# Altium schematic symbol library WCAP-PHLE.SchLib: 11 symbols
Pins are listed as number, name and electrical type; pins without a type are passive.

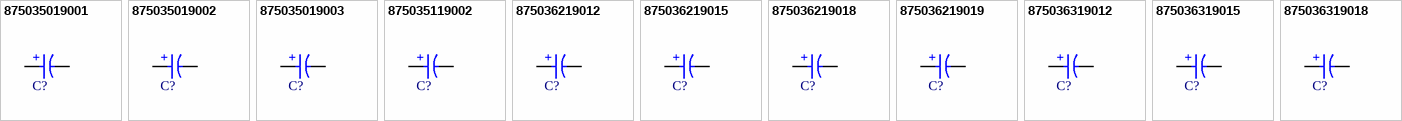
[diagram p0: symbols 875035019001 to 875036319018]

## 875035019001
designator C?, comment 100µF  (value not drawn)
WCAP-PHLE Aluminum Polymer Capacitor, H-Chip, SMT, L7.3 x W4.3 x H1.9mm, 100µF, 4V; Manufacturer Part Number: 875035019001; Manufacturer: Wurth Elektronik; Capacitance Tolerance: +/-20%; Dissipation Factor: 6%; Endurance: 2000h; ESR: 9mΩ; Leakage Current: 40µA; Ripple Current: 6300mA; Technical Reference: PSE2917101M004DH1T2HT19; Category: Aluminum Polymer Capacitors; Match Code: WCAP-PHLE; ComponentLink1Description: Website Link; ComponentLink1URL: https://www.we-online.com/redexpert/article/875035019001?ad; ComponentLink2Description: Datasheet Link; ComponentLink2URL: https://www.we-online.com/redexpert/spec/875035019001?ad; Mount: Surface Mount; Operating Temperature Max: 105°C; Operating Temperature Min: -55°C; Packaging: Tape and Reel; Length: 7.3mm; Width: 4.3mm; Height: 1.9mm; Capacitance: 100µF; Rated Voltage (DC): 4V
footprint WCAP-PHLE_L7.3W4.3H1.9
simulation model 875035019001_100uF
pins: 1 P, 2 N
text: +

## 875035019002
designator C?, comment 180µF  (value not drawn)
WCAP-PHLE Aluminum Polymer Capacitor, H-Chip, SMT, L7.3 x W4.3 x H1.9mm, 180µF, 4V; Manufacturer Part Number: 875035019002; Manufacturer: Wurth Elektronik; Capacitance Tolerance: +/-20%; Dissipation Factor: 6%; Endurance: 2000h; ESR: 9mΩ; Leakage Current: 72µA; Ripple Current: 6300mA; Technical Reference: PSE2917181M004DH1T2HT19; Category: Aluminum Polymer Capacitors; Match Code: WCAP-PHLE; ComponentLink1Description: Website Link; ComponentLink1URL: https://www.we-online.com/redexpert/article/875035019002?ad; ComponentLink2Description: Datasheet Link; ComponentLink2URL: https://www.we-online.com/redexpert/spec/875035019002?ad; Mount: Surface Mount; Operating Temperature Max: 105°C; Operating Temperature Min: -55°C; Packaging: Tape and Reel; Length: 7.3mm; Width: 4.3mm; Height: 1.9mm; Capacitance: 180µF; Rated Voltage (DC): 4V
footprint WCAP-PHLE_L7.3W4.3H1.9
simulation model 875035019002_180uF
pins: 1 P, 2 N
text: +

## 875035019003
designator C?, comment 220µF  (value not drawn)
WCAP-PHLE Aluminum Polymer Capacitor, H-Chip, SMT, L7.3 x W4.3 x H1.9mm, 220µF, 4V; Manufacturer Part Number: 875035019003; Manufacturer: Wurth Elektronik; Capacitance Tolerance: +/-20%; Dissipation Factor: 6%; Endurance: 2000h; ESR: 9mΩ; Leakage Current: 88µA; Ripple Current: 6300mA; Technical Reference: PSE2917221M004DH1T2HT19; Category: Aluminum Polymer Capacitors; Match Code: WCAP-PHLE; ComponentLink1Description: Website Link; ComponentLink1URL: https://www.we-online.com/redexpert/article/875035019003?ad; ComponentLink2Description: Datasheet Link; ComponentLink2URL: https://www.we-online.com/redexpert/spec/875035019003?ad; Mount: Surface Mount; Operating Temperature Max: 105°C; Operating Temperature Min: -55°C; Packaging: Tape and Reel; Length: 7.3mm; Width: 4.3mm; Height: 1.9mm; Capacitance: 220µF; Rated Voltage (DC): 4V
footprint WCAP-PHLE_L7.3W4.3H1.9
simulation model 875035019003_220uF
pins: 1 P, 2 N
text: +

## 875035119002
designator C?, comment 180µF  (value not drawn)
WCAP-PHLE Aluminum Polymer Capacitor, H-Chip, SMT, L7.3 x W4.3 x H1.9mm, 180µF, 6.3V; Manufacturer Part Number: 875035119002; Manufacturer: Wurth Elektronik; Capacitance Tolerance: +/-20%; Dissipation Factor: 6%; Endurance: 2000h; ESR: 9mΩ; Leakage Current: 113.4µA; Ripple Current: 6300mA; Technical Reference: PSE2917181M6R3DH1T2HT19; Category: Aluminum Polymer Capacitors; Match Code: WCAP-PHLE; ComponentLink1Description: Website Link; ComponentLink1URL: https://www.we-online.com/redexpert/article/875035119002?ad; ComponentLink2Description: Datasheet Link; ComponentLink2URL: https://www.we-online.com/redexpert/spec/875035119002?ad; Mount: Surface Mount; Operating Temperature Max: 105°C; Operating Temperature Min: -55°C; Packaging: Tape and Reel; Length: 7.3mm; Width: 4.3mm; Height: 1.9mm; Capacitance: 180µF; Rated Voltage (DC): 6.3V
footprint WCAP-PHLE_L7.3W4.3H1.9
simulation model 875035119002_180uF
pins: 1 P, 2 N
text: +

## 875036219012
designator C?, comment 330µF  (value not drawn)
WCAP-PHLE Aluminum Polymer Capacitor, H-Chip, SMT, L7.3 x W4.3 x H1.9mm, 330µF, 2V; Manufacturer Part Number: 875036219012; Manufacturer: Wurth Elektronik; Capacitance Tolerance: +/-20%; Dissipation Factor: 6%; Endurance: 2000h; ESR: 4.5mΩ; Leakage Current: 66µA; Ripple Current: 8500mA; Technical Reference: PSE2917331M002DH1T2HT19; Category: Aluminum Polymer Capacitors; Match Code: WCAP-PHLE; ComponentLink1Description: Website Link; ComponentLink1URL: https://www.we-online.com/redexpert/article/875036219012?ad; ComponentLink2Description: Datasheet Link; ComponentLink2URL: https://www.we-online.com/redexpert/spec/875036219012?ad; Mount: Surface Mount; Operating Temperature Max: 105°C; Operating Temperature Min: -55°C; Packaging: Tape and Reel; Length: 7.3mm; Width: 4.3mm; Height: 1.9mm; Capacitance: 330µF; Rated Voltage (DC): 2V
footprint WCAP-PHLE_L7.3W4.3H1.9
simulation model 875036219012_330uF
pins: 1 P, 2 N
text: +

## 875036219015
designator C?, comment 390µF  (value not drawn)
WCAP-PHLE Aluminum Polymer Capacitor, H-Chip, SMT, L7.3 x W4.3 x H1.9mm, 390µF, 2V; Manufacturer Part Number: 875036219015; Manufacturer: Wurth Elektronik; Capacitance Tolerance: +/-20%; Dissipation Factor: 6%; Endurance: 2000h; ESR: 4.5mΩ; Leakage Current: 78µA; Ripple Current: 8500mA; Technical Reference: PSE2917391M002DH1T2HT19; Category: Aluminum Polymer Capacitors; Match Code: WCAP-PHLE; ComponentLink1Description: Website Link; ComponentLink1URL: https://www.we-online.com/redexpert/article/875036219015?ad; ComponentLink2Description: Datasheet Link; ComponentLink2URL: https://www.we-online.com/redexpert/spec/875036219015?ad; Mount: Surface Mount; Operating Temperature Max: 105°C; Operating Temperature Min: -55°C; Packaging: Tape and Reel; Length: 7.3mm; Width: 4.3mm; Height: 1.9mm; Capacitance: 390µF; Rated Voltage (DC): 2V
footprint WCAP-PHLE_L7.3W4.3H1.9
simulation model 875036219015_390uF
pins: 1 P, 2 N
text: +

## 875036219018
designator C?, comment 470µF  (value not drawn)
WCAP-PHLE Aluminum Polymer Capacitor, H-Chip, SMT, L7.3 x W4.3 x H1.9mm, 470µF, 2V; Manufacturer Part Number: 875036219018; Manufacturer: Wurth Elektronik; Capacitance Tolerance: +/-20%; Dissipation Factor: 6%; Endurance: 2000h; ESR: 4.5mΩ; Leakage Current: 94µA; Ripple Current: 8500mA; Technical Reference: PSE2917471M002DH1T2HT19; Category: Aluminum Polymer Capacitors; Match Code: WCAP-PHLE; ComponentLink1Description: Website Link; ComponentLink1URL: https://www.we-online.com/redexpert/article/875036219018?ad; ComponentLink2Description: Datasheet Link; ComponentLink2URL: https://www.we-online.com/redexpert/spec/875036219018?ad; Mount: Surface Mount; Operating Temperature Max: 105°C; Operating Temperature Min: -55°C; Packaging: Tape and Reel; Length: 7.3mm; Width: 4.3mm; Height: 1.9mm; Capacitance: 470µF; Rated Voltage (DC): 2V
footprint WCAP-PHLE_L7.3W4.3H1.9
simulation model 875036219018_470uF
pins: 1 P, 2 N
text: +

## 875036219019
designator C?, comment 560µF  (value not drawn)
WCAP-PHLE Aluminum Polymer Capacitor, H-Chip, SMT, L7.3 x W4.3 x H1.9mm, 560µF, 2V; Manufacturer Part Number: 875036219019; Manufacturer: Wurth Elektronik; Capacitance Tolerance: +/-20%; Dissipation Factor: 6%; Endurance: 2000h; ESR: 4.5mΩ; Leakage Current: 112µA; Ripple Current: 8500mA; Technical Reference: PSE2917561M002DH1T2HT19; Category: Aluminum Polymer Capacitors; Match Code: WCAP-PHLE; ComponentLink1Description: Website Link; ComponentLink1URL: https://www.we-online.com/redexpert/article/875036219019?ad; ComponentLink2Description: Datasheet Link; ComponentLink2URL: https://www.we-online.com/redexpert/spec/875036219019?ad; Mount: Surface Mount; Operating Temperature Max: 105°C; Operating Temperature Min: -55°C; Packaging: Tape and Reel; Length: 7.3mm; Width: 4.3mm; Height: 1.9mm; Capacitance: 560µF; Rated Voltage (DC): 2V
footprint WCAP-PHLE_L7.3W4.3H1.9
simulation model 875036219019_560uF
pins: 1 P, 2 N
text: +

## 875036319012
designator C?, comment 330µF  (value not drawn)
WCAP-PHLE Aluminum Polymer Capacitor, H-Chip, SMT, L7.3 x W4.3 x H1.9mm, 330µF, 2.5V; Manufacturer Part Number: 875036319012; Manufacturer: Wurth Elektronik; Capacitance Tolerance: +/-20%; Dissipation Factor: 6%; Endurance: 2000h; ESR: 4.5mΩ; Leakage Current: 82.5µA; Ripple Current: 8500mA; Technical Reference: PSE2917331M2R5DH1T2HT19; Category: Aluminum Polymer Capacitors; Match Code: WCAP-PHLE; ComponentLink1Description: Website Link; ComponentLink1URL: https://www.we-online.com/redexpert/article/875036319012?ad; ComponentLink2Description: Datasheet Link; ComponentLink2URL: https://www.we-online.com/redexpert/spec/875036319012?ad; Mount: Surface Mount; Operating Temperature Max: 105°C; Operating Temperature Min: -55°C; Packaging: Tape and Reel; Length: 7.3mm; Width: 4.3mm; Height: 1.9mm; Capacitance: 330µF; Rated Voltage (DC): 2.5V
footprint WCAP-PHLE_L7.3W4.3H1.9
simulation model 875036319012_330uF
pins: 1 P, 2 N
text: +

## 875036319015
designator C?, comment 390µF  (value not drawn)
WCAP-PHLE Aluminum Polymer Capacitor, H-Chip, SMT, L7.3 x W4.3 x H1.9mm, 390µF, 2.5V; Manufacturer Part Number: 875036319015; Manufacturer: Wurth Elektronik; Capacitance Tolerance: +/-20%; Dissipation Factor: 6%; Endurance: 2000h; ESR: 4.5mΩ; Leakage Current: 97.5µA; Ripple Current: 8500mA; Technical Reference: PSE2917391M2R5DH1T2HT19; Category: Aluminum Polymer Capacitors; Match Code: WCAP-PHLE; ComponentLink1Description: Website Link; ComponentLink1URL: https://www.we-online.com/redexpert/article/875036319015?ad; ComponentLink2Description: Datasheet Link; ComponentLink2URL: https://www.we-online.com/redexpert/spec/875036319015?ad; Mount: Surface Mount; Operating Temperature Max: 105°C; Operating Temperature Min: -55°C; Packaging: Tape and Reel; Length: 7.3mm; Width: 4.3mm; Height: 1.9mm; Capacitance: 390µF; Rated Voltage (DC): 2.5V
footprint WCAP-PHLE_L7.3W4.3H1.9
simulation model 875036319015_390uF
pins: 1 P, 2 N
text: +

## 875036319018
designator C?, comment 470µF  (value not drawn)
WCAP-PHLE Aluminum Polymer Capacitor, H-Chip, SMT, L7.3 x W4.3 x H1.9mm, 470µF, 2.5V; Manufacturer Part Number: 875036319018; Manufacturer: Wurth Elektronik; Capacitance Tolerance: +/-20%; Dissipation Factor: 6%; Endurance: 2000h; ESR: 4.5mΩ; Leakage Current: 117.5µA; Ripple Current: 8500mA; Technical Reference: PSE2917471M2R5DH1T2HT19; Category: Aluminum Polymer Capacitors; Match Code: WCAP-PHLE; ComponentLink1Description: Website Link; ComponentLink1URL: https://www.we-online.com/redexpert/article/875036319018?ad; ComponentLink2Description: Datasheet Link; ComponentLink2URL: https://www.we-online.com/redexpert/spec/875036319018?ad; Mount: Surface Mount; Operating Temperature Max: 105°C; Operating Temperature Min: -55°C; Packaging: Tape and Reel; Length: 7.3mm; Width: 4.3mm; Height: 1.9mm; Capacitance: 470µF; Rated Voltage (DC): 2.5V
footprint WCAP-PHLE_L7.3W4.3H1.9
simulation model 875036319018_470uF
pins: 1 P, 2 N
text: +